# Altium footprint library Ascii of Main Board V1.1.PcbLib: 40 footprints (part 3 of 3)
Each footprint in its own frame and in the unit in brackets; x right, y up, seen from the top. Pads: shape width x height; smd on the part's side, far side on the other; paste and mask are expansions set on the pad; w line width, h text height; cw(c..) or ccw(c..) is an arc to the next point about the centre after c.
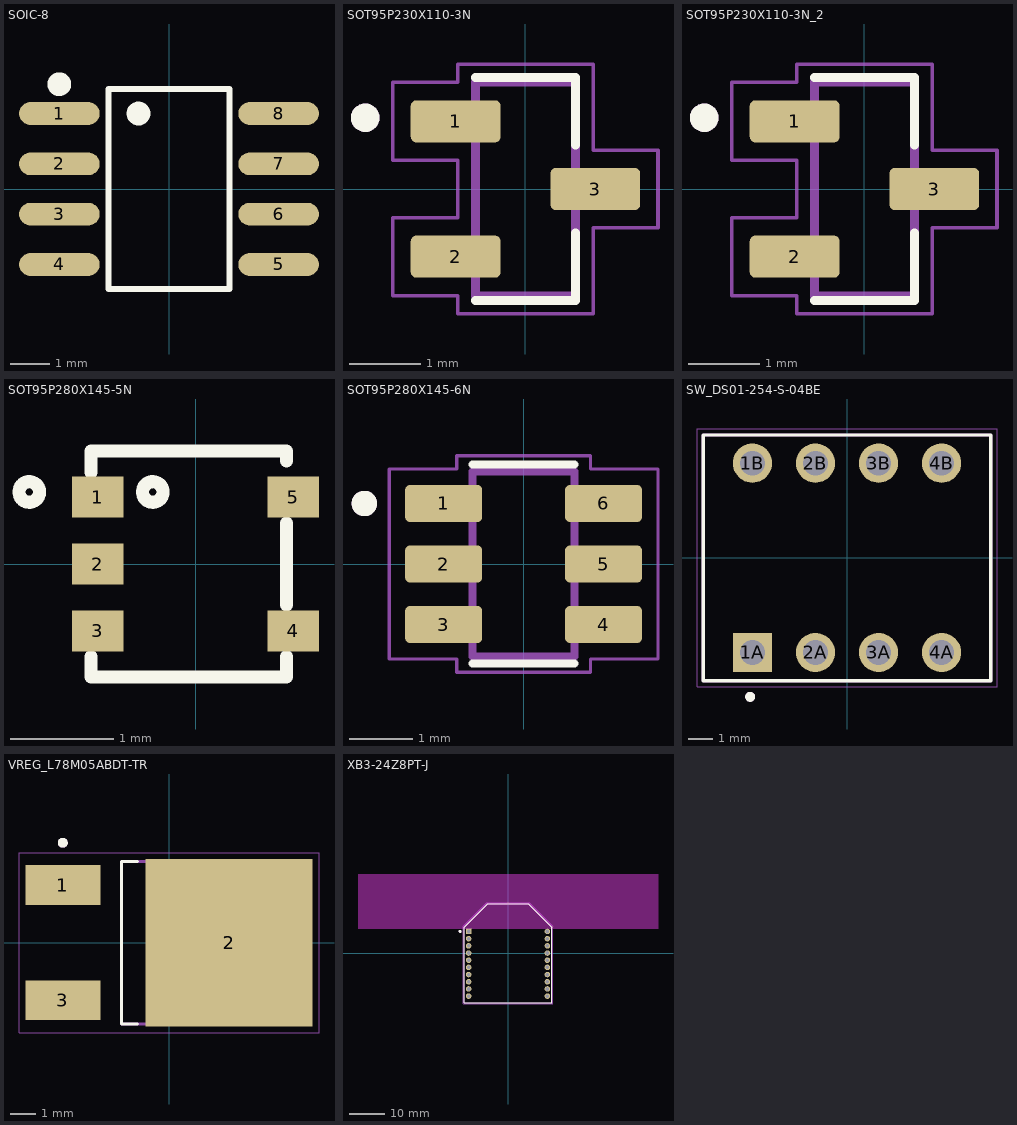
[diagram p2: the footprints below, top view; thin cyan lines are the x and y axes]

## SOIC-8 [mm]
pads (8):
  oval 2.036x0.574 smd: 1(-2.768,1.905) 2(-2.768,0.635) 3(-2.768,-0.635) 4(-2.768,-1.905) 5(2.768,-1.905) 6(2.768,-0.635) 7(2.768,0.635) 8(2.768,1.905)
Top Overlay:
  circle w0.3: c-0.769,1.905 r0.15
  circle w0.3: c-2.768,2.644 r0.15
  lines w0.152: -1.521,-2.526 1.521,-2.526 1.521,2.526 -1.521,2.526 -1.521,-2.526
3D body: height 1.75, standoff 0, extent -3,-2.45 3,2.45

## SOT95P230X110-3N [mm]
pads (3):
  rrect25% 1.26x0.59 smd: 1(-0.98,0.95) 2(-0.98,-0.95) 3(0.98,0)
Top Overlay:
  circle w0.2: c-2.25,1 r0.1
  lines w0.127: -0.7,-1.565 0.7,-1.565 0.7,-0.615 ; -0.7,1.565 0.7,1.565 0.7,0.615
Mechanical 13:
  circle w0.2: c-2.25,1 r0.1
  lines w0.127: -0.7,-1.5 0.7,-1.5 0.7,1.5 -0.7,1.5 -0.7,-1.5
Mechanical 15:
  lines w0.05: -1.86,-1.495 -0.95,-1.495 -0.95,-1.75 0.95,-1.75 0.95,-0.545 1.86,-0.545 1.86,0.545 0.95,0.545 0.95,1.75 -0.95,1.75 -0.95,1.495 -1.86,1.495 -1.86,0.405 -0.95,0.405 -0.95,-0.405 -1.86,-0.405 -1.86,-1.495
3D body: height 1.1, standoff 0, extent -1.15,-1.45 1.15,1.45

## SOT95P230X110-3N_2 [mm]
pads (3):
  rrect25% 1.26x0.59 smd: 1(-0.98,0.95) 2(-0.98,-0.95) 3(0.98,0)
Top Overlay:
  circle w0.2: c-2.25,1 r0.1
  lines w0.127: -0.7,-1.565 0.7,-1.565 0.7,-0.615 ; -0.7,1.565 0.7,1.565 0.7,0.615
Mechanical 13:
  circle w0.2: c-2.25,1 r0.1
  lines w0.127: -0.7,-1.5 0.7,-1.5 0.7,1.5 -0.7,1.5 -0.7,-1.5
Mechanical 15:
  lines w0.05: -1.86,-1.495 -0.95,-1.495 -0.95,-1.75 0.95,-1.75 0.95,-0.545 1.86,-0.545 1.86,0.545 0.95,0.545 0.95,1.75 -0.95,1.75 -0.95,1.495 -1.86,1.495 -1.86,0.405 -0.95,0.405 -0.95,-0.405 -1.86,-0.405 -1.86,-1.495
3D body: height 1.1, standoff 0, extent -1.15,-1.45 1.15,1.45

## SOT95P280X145-5N [mm]
pads (5):
  rect 0.5x0.4 smd: 1(-0.95,0.65) 2(-0.95,0) 3(-0.95,-0.65) 4(0.95,-0.65) 5(0.95,0.65)
Top Overlay:
  circle w0.127: c-0.416,0.7 r0.1
  circle w0.127: c-1.616,0.7 r0.1
  lines w0.127: -1.016,-0.9 -1.016,-1.1 0.884,-1.1 0.884,-0.9 ; -1.016,0.889 -1.016,1.1 0.884,1.1 0.884,1 ; 0.884,-0.4 0.884,0.4
3D body "step_temp.STEP": height 1.09, standoff 0, extent -1.054,-1.003 1.054,1.003

## SOT95P280X145-6N [mm]
pads (6):
  rrect25% 1.21x0.58 smd: 1(-1.255,0.95) 2(-1.255,0) 3(-1.255,-0.95) 4(1.255,-0.95) 5(1.255,0) 6(1.255,0.95)
Top Overlay:
  circle w0.2: c-2.5,0.95 r0.1
  lines w0.127: -0.8,-1.56 0.8,-1.56 ; -0.8,1.56 0.8,1.56
Mechanical 13:
  circle w0.2: c-2.5,0.95 r0.1
  lines w0.127: -0.8,-1.45 -0.8,1.45 0.8,1.45 0.8,-1.45 -0.8,-1.45
Mechanical 15:
  lines w0.05: -2.11,-1.49 -2.11,1.49 -1.05,1.49 -1.05,1.7 1.05,1.7 1.05,1.49 2.11,1.49 2.11,-1.49 1.05,-1.49 1.05,-1.7 -1.05,-1.7 -1.05,-1.49 -2.11,-1.49
3D body: height 0.25, standoff 0, extent -1.7,-1.65 1.7,1.65

## SW_DS01-254-S-04BE [mm]
pads (8):
  rect 1.58x1.58 hole 1: 1A(-3.81,-3.81)
  round 1.58 hole 1: 1B(-3.81,3.81) 2A(-1.27,-3.81) 2B(-1.27,3.81) 3A(1.27,-3.81) 3B(1.27,3.81) 4A(3.81,-3.81) 4B(3.81,3.81)
Top Overlay:
  circle w0.2: c-3.9,-5.6 r0.1
  lines w0.127: -5.79,-4.95 -5.79,4.95 5.79,4.95 5.79,-4.95 -5.79,-4.95
Mechanical 13:
  circle w0.2: c-3.9,-5.6 r0.1
  lines w0.127: -5.79,-4.95 -5.79,4.95 5.79,4.95 5.79,-4.95 -5.79,-4.95
Mechanical 15:
  lines w0.05: -6.04,-5.2 -6.04,5.2 6.04,5.2 6.04,-5.2 -6.04,-5.2
3D body: height 6.04, standoff -3.16, extent -5.86,-4.95 5.86,4.95

## VREG_L78M05ABDT-TR [mm]
pads (3):
  rect 3x1.6 smd: 1(-4.25,2.3) 3(-4.25,-2.3)
  rect 6.7x6.7 smd paste-4: 2(2.4,0)
Top Overlay:
  circle w0.2: c-4.25,4 r0.1
  lines w0.127: -1.264,-3.25 -1.9,-3.25 -1.9,3.25 -1.264,3.25
Top Paste:
  region: 5.42,-3.02 3.84,-3.02 3.84,-1.44 5.42,-1.44
  region: 5.42,1.44 3.84,1.44 3.84,3.02 5.42,3.02
  region: 5.42,-0.79 3.84,-0.79 3.84,0.79 5.42,0.79
  region: 0.96,-3.02 -0.62,-3.02 -0.62,-1.44 0.96,-1.44
  region: 0.96,1.44 -0.62,1.44 -0.62,3.02 0.96,3.02
  region: 0.96,-0.79 -0.62,-0.79 -0.62,0.79 0.96,0.79
  region: 3.19,-3.02 1.61,-3.02 1.61,-1.44 3.19,-1.44
  region: 3.19,1.44 1.61,1.44 1.61,3.02 3.19,3.02
  region: 3.19,-0.79 1.61,-0.79 1.61,0.79 3.19,0.79
Mechanical 13:
  circle w0.2: c-4.25,4 r0.1
  lines w0.127: -1.9,-3.25 -1.9,3.25 4.2,3.25 4.2,-3.25 -1.9,-3.25
Mechanical 15:
  lines w0.05: -6,-3.6 6,-3.6 6,3.6 -6,3.6 -6,-3.6
3D body "BA033CC0FP-E2.stp": height 2.3, standoff 0, extent -4.826,-3.25 4.674,3.25

## XB3-24Z8PT-J [mm]
pads (20):
  rect 1.53x1.53 hole 1.02: 1(-10.998,6.096)
  round 1.53 hole 1.02: 2(-10.998,4.089) 3(-10.998,2.083) 4(-10.998,0.076) 5(-10.998,-1.93) 6(-10.998,-3.937) 7(-10.998,-5.944) 8(-10.998,-7.95) 9(-10.998,-9.957) 10(-10.998,-11.963) 11(10.998,-11.963) 12(10.998,-9.957) 13(10.998,-7.95) 14(10.998,-5.944) 15(10.998,-3.937) 16(10.998,-1.93) 17(10.998,0.076) 18(10.998,2.083) 19(10.998,4.089) 20(10.998,6.096)
Top Overlay:
  circle w0.4: c-13.4,6.1 r0.2
  lines w0.127: -12.192,-13.818 12.192,-13.818 12.192,7.29 5.664,13.818 -5.664,13.818 -12.192,7.29 -12.192,-13.818
Keep-Out Layer:
  region: 41.9,6.86 -41.9,6.86 -41.9,22.06 41.9,22.06
  region: 41.9,6.86 -41.9,6.86 -41.9,22.06 41.9,22.06
  region: 41.9,6.86 -41.9,6.86 -41.9,22.06 41.9,22.06
Mechanical 13:
  circle w0.4: c-13.4,6.1 r0.2
  lines w0.127: -12.192,-13.818 -12.192,7.29 -5.664,13.818 5.664,13.818 12.192,7.29 12.192,-13.818 -12.192,-13.818
Mechanical 15:
  lines w0.05: -12.442,-14.068 -12.442,7.544 -5.918,14.068 5.918,14.068 12.442,7.544 12.442,-14.068 -12.442,-14.068
3D body: height 9.15, standoff 1.5, extent -12.319,-13.906 12.065,13.729
3D body: height 5.6, standoff -2.7, extent -11.998,-12.904 -9.998,7.096
3D body: height 5.6, standoff -2.7, extent 9.998,-12.904 11.998,7.096